# Altium footprint library Connectors-w2b.PcbLib: 5 footprints
Each footprint in its own frame and in the unit in brackets; x right, y up, seen from the top. Pads: shape width x height; smd on the part's side, far side on the other; paste and mask are expansions set on the pad; w line width, h text height; cw(c..) or ccw(c..) is an arc to the next point about the centre after c.
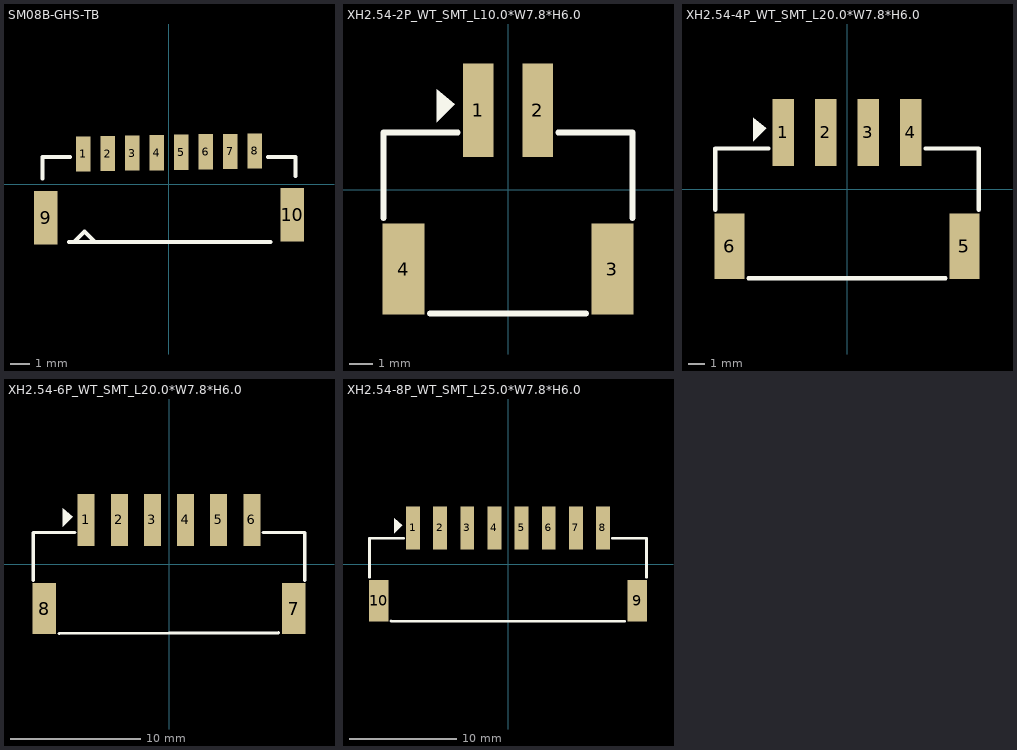
[diagram p0: the footprints below, top view; thin cyan lines are the x and y axes]

## SM08B-GHS-TB [mm]
pads (10):
  rect 0.75x1.8 smd: 1(-4.391,1.555) 2(-3.136,1.577) 3(-1.882,1.599) 4(-0.627,1.62) 5(0.627,1.642) 6(1.882,1.664) 7(3.136,1.686) 8(4.391,1.708)
  rect 1.2x2.75 smd: 9(-6.299,-1.708) 10(6.299,-1.555)
Top Overlay:
  lines w0.203: -6.477,1.397 -6.475,0.3 ; -6.475,1.397 -5.075,1.397 ; -4.826,-2.921 -4.318,-2.413 -3.81,-2.921 ; 5.075,1.397 6.475,1.397 6.475,0.425 ; 5.2,-2.95 -5.125,-2.95 ; -5.125,-2.95 -5.125,-2.95

## XH2.54-2P_WT_SMT_L10.0*W7.8*H6.0 [mm]
pads (4):
  rect 1.3x4 smd paste+0 mask+0.05: 1(-1.27,3.4) 2(1.27,3.4)
  rect 1.8x3.9 smd paste+0 mask+0.05: 3(4.47,-3.4) 4(-4.47,-3.4)
Top Overlay:
  region: -2.286,3.654 -3.048,2.892 -3.048,4.289
  lines w0.254: -5.334,-1.219 -5.334,2.44 -2.151,2.44 ; -3.339,-5.307 3.344,-5.303 ; 2.151,2.44 5.334,2.44 5.334,-1.219

## XH2.54-4P_WT_SMT_L20.0*W7.8*H6.0 [mm]
pads (6):
  rect 1.3x4 smd paste+0 mask+0.05: 1(-3.81,3.4) 2(-1.27,3.4) 3(1.27,3.4) 4(3.81,3.4)
  rect 1.8x3.9 smd paste+0 mask+0.05: 5(7.01,-3.4) 6(-7.01,-3.4)
Top Overlay:
  region: -4.826,3.654 -5.588,2.892 -5.588,4.289
  lines w0.254: -7.874,-1.219 -7.874,2.44 -4.691,2.44 ; -5.879,-5.307 5.879,-5.307 ; 4.691,2.44 7.874,2.44 7.874,-1.219

## XH2.54-6P_WT_SMT_L20.0*W7.8*H6.0 [mm]
pads (8):
  rect 1.3x4 smd paste+0 mask+0.05: 1(-6.35,3.4) 2(-3.81,3.4) 3(-1.27,3.4) 4(1.27,3.4) 5(3.81,3.4) 6(6.35,3.4)
  rect 1.8x3.9 smd paste+0 mask+0.05: 7(9.55,-3.4) 8(-9.55,-3.4)
Top Overlay:
  region: -7.366,3.654 -8.128,2.892 -8.128,4.289
  lines w0.254: -10.414,-1.219 -10.414,2.44 -7.231,2.44 ; -8.419,-5.307 8.391,-5.254 ; 7.231,2.44 10.414,2.44 10.414,-1.219

## XH2.54-8P_WT_SMT_L25.0*W7.8*H6.0 [mm]
pads (10):
  rect 1.3x4 smd paste+0 mask+0.05: 1(-8.89,3.4) 2(-6.35,3.4) 3(-3.81,3.4) 4(-1.27,3.4) 5(1.27,3.4) 6(3.81,3.4) 7(6.35,3.4) 8(8.89,3.4)
  rect 1.8x3.9 smd paste+0 mask+0.05: 9(12.09,-3.4) 10(-12.09,-3.4)
Top Overlay:
  region: -9.906,3.654 -10.668,2.892 -10.668,4.289
  lines w0.254: -12.954,-1.219 -12.954,2.44 -9.771,2.44 ; -10.959,-5.307 10.922,-5.334 ; 9.771,2.44 12.954,2.44 12.954,-1.219